# EAGLE library part ITSYBITSY_EDGE_PWR_M4EXPRESS (library BitsyExpander_v3.0_M4)
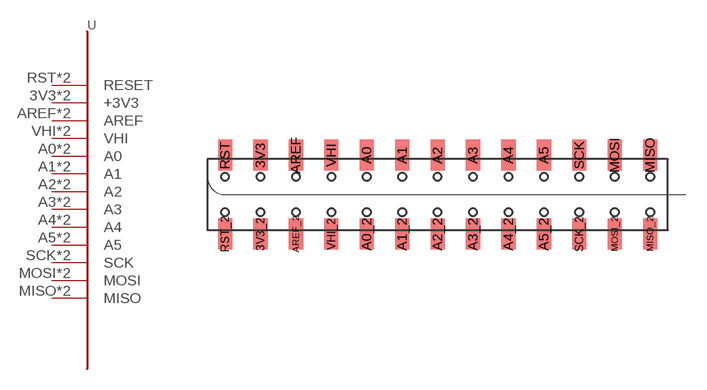
[diagram p6: symbol with the pads of ITSYBITSY_SMD_EDGE_PWR_M4EXPRESS; footprint ITSYBITSY_SMD_EDGE_PWR_M4EXPRESS]

Designator prefix -

## ITSYBITSY_EDGE_PWR_M4EXPRESS  [ITSYBITSY_SMD_EDGE_PWR_M4EXPRESS]
3V3  +3V3
3V3_2  +3V3
A0  A0
A0_2  A0
A1  A1
A1_2  A1
A2  A2
A2_2  A2
A3  A3
A3_2  A3
A4  A4
A4_2  A4
A5  A5
A5_2  A5
AREF  AREF
AREF_2  AREF
MISO  MISO
MISO_2  MISO
MOSI  MOSI
MOSI_2  MOSI
RST  RESET
RST_2  RESET
SCK  SCK
SCK_2  SCK
VHI  VHI
VHI_2  VHI

## Footprint ITSYBITSY_SMD_EDGE_PWR_M4EXPRESS (pad centres in mm)
smd 1.02 x 2.22: 3V3 -13.97,2.83; 3V3_2 -13.97,-2.83; A0 -6.35,2.83; A0_2 -6.35,-2.83; A1 -3.81,2.83; A1_2 -3.81,-2.83; A2 -1.27,2.83; A2_2 -1.27,-2.83; A3 1.27,2.83; A3_2 1.27,-2.83; A4 3.81,2.83; A4_2 3.81,-2.83; A5 6.35,2.83; A5_2 6.35,-2.83; AREF -11.43,2.83; AREF_2 -11.43,-2.83; MISO 13.97,2.83; MISO_2 13.97,-2.83; MOSI 11.43,2.83; MOSI_2 11.43,-2.83; RST -16.51,2.83; RST_2 -16.51,-2.83; SCK 8.89,2.83; SCK_2 8.89,-2.83; VHI -8.89,2.83; VHI_2 -8.89,-2.83